# EAGLE library part ESP12EBREAKOUT (library mylib)
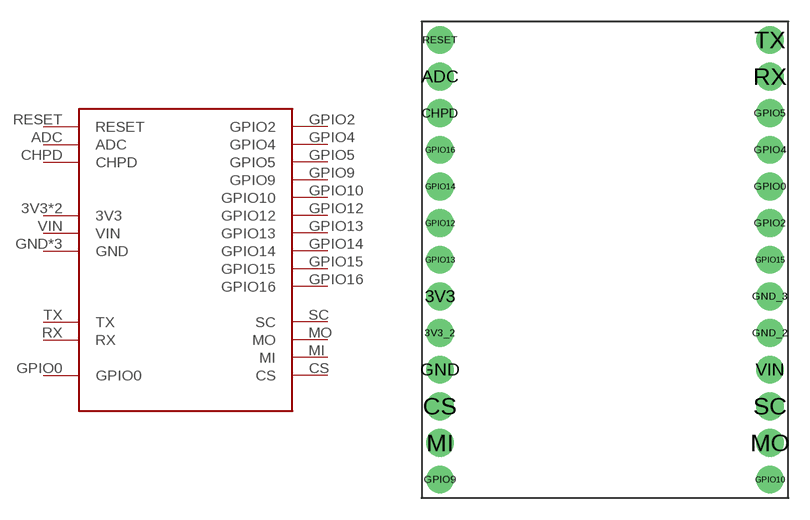
[diagram p1: symbol with the pads of ESP12EBREAKOUT; footprint ESP12EBREAKOUT]

Designator prefix -

## ESP12EBREAKOUT  [ESP12EBREAKOUT]
3V3  3V3
3V3_2  3V3
ADC  ADC
CHPD  CHPD
CS  CS
GND  GND
GND_2  GND
GND_3  GND
GPIO0  GPIO0
GPIO2  GPIO2
GPIO4  GPIO4
GPIO5  GPIO5
GPIO9  GPIO9
GPIO10  GPIO10
GPIO12  GPIO12
GPIO13  GPIO13
GPIO14  GPIO14
GPIO15  GPIO15
GPIO16  GPIO16
MI  MI
MO  MO
RESET  RESET
RX  RX
SC  SC
TX  TX
VIN  VIN

## Footprint ESP12EBREAKOUT (pad centres in mm)
drill 1 pad 1.93: 3V3 -8.89,2.54; 3V3_2 -8.89,0; ADC -8.89,17.78; CHPD -8.89,15.24; CS -8.89,-5.08; GND -8.89,-2.54; GND_2 13.97,0; GND_3 13.97,2.54; GPIO0 13.97,10.16; GPIO2 13.97,7.62; GPIO4 13.97,12.7; GPIO5 13.97,15.24; GPIO9 -8.89,-10.16; GPIO10 13.97,-10.16; GPIO12 -8.89,7.62; GPIO13 -8.89,5.08; GPIO14 -8.89,10.16; GPIO15 13.97,5.08; GPIO16 -8.89,12.7; MI -8.89,-7.62; MO 13.97,-7.62; RESET -8.89,20.32; RX 13.97,17.78; SC 13.97,-5.08; TX 13.97,20.32; VIN 13.97,-2.54